# EAGLE library part MICROSD (library Mechanical)
microSD Card Mount, Manufacturer: Molex, Man Part # : 5025700893, Digikey Part #: WM19093CT-ND
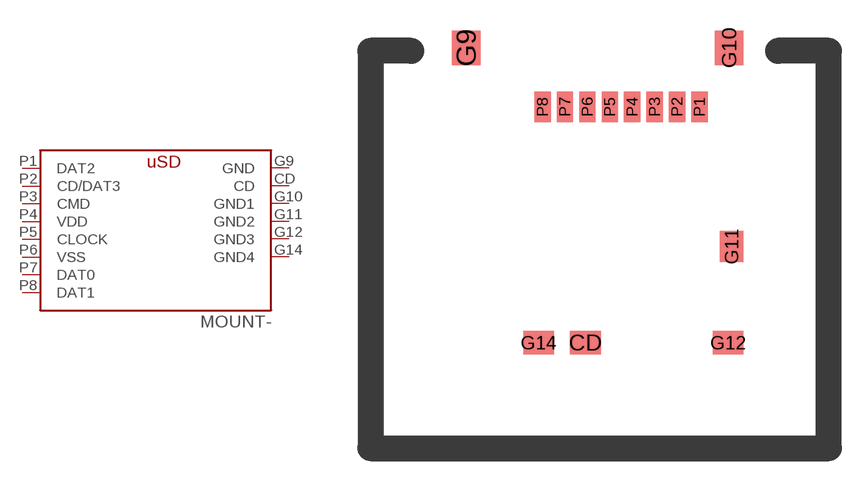
[diagram p86: symbol with the pads of MICROSD; footprint MICROSD]

Designator prefix MOUNT-

## MICROSD  [MICROSD]
CD  CD
G9  GND
G10  GND1
G11  GND2
G12  GND3
G14  GND4
P1  DAT2
P2  CD/DAT3
P3  CMD
P4  VDD
P5  CLOCK
P6  VSS
P7  DAT0
P8  DAT1

## Footprint MICROSD (pad centres in mm)
smd 1.5 x 1.15: CD 6.55,-15.325; G12 13.55,-15.325; G14 4.25,-15.325
smd 1.4 x 1.7: G9 0.7,-0.85; G10 13.6,-0.85
smd 1.15 x 1.5: G11 13.725,-10.6
smd 0.8 x 1.5: P1 12.15,-3.75; P2 11.05,-3.75; P3 9.95,-3.75; P4 8.85,-3.75; P5 7.75,-3.75; P6 6.65,-3.75; P7 5.55,-3.75; P8 4.45,-3.75